# Altium footprint library XTAL.PcbLib: 16 footprints
Each footprint in its own frame and in the unit in brackets; x right, y up, seen from the top. Pads: shape width x height; smd on the part's side, far side on the other; paste and mask are expansions set on the pad; w line width, h text height; cw(c..) or ccw(c..) is an arc to the next point about the centre after c.
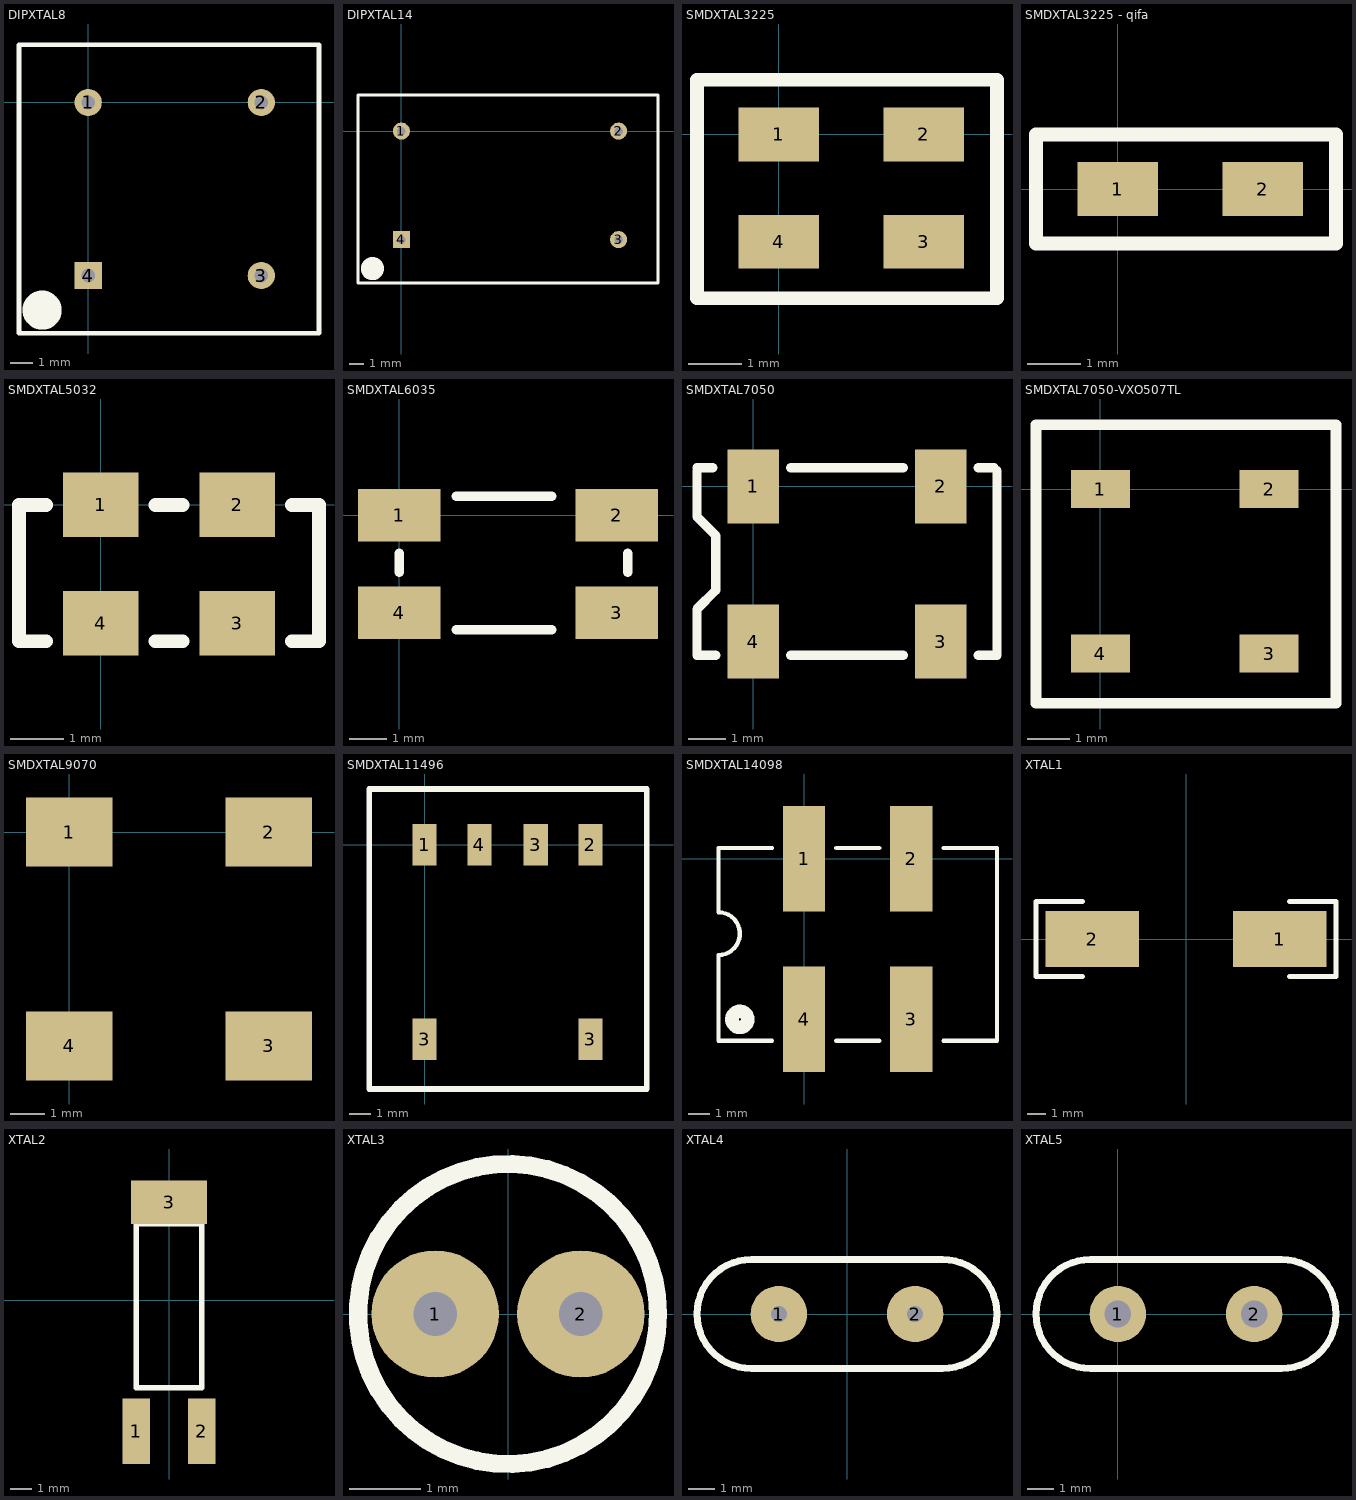
[diagram p0: the footprints below, top view; thin cyan lines are the x and y axes]

## DIPXTAL8 [mm]
pads (4):
  round 1.2 hole 0.6: 1(0,0) 2(7.62,0) 3(7.62,-7.62)
  rect 1.2x1.2 hole 0.6: 4(0,-7.62)
Top Overlay:
  circle w1.5: c-2.032,-9.144 r0.108
  lines w0.2: -3.048,-10.16 -3.048,2.54 10.16,2.54 10.16,-10.16 -3.048,-10.16

## DIPXTAL14 [mm]
pads (4):
  round 1.2 hole 0.6: 1(0,0) 2(15.25,0) 3(15.25,-7.62)
  rect 1.2x1.2 hole 0.6: 4(0,-7.62)
Top Overlay:
  circle w1.016: c-2.032,-9.652 r0.3
  lines w0.2: -3.048,-10.668 -3.048,2.54 18.016,2.54 18.016,-10.668 -3.048,-10.668

## SMDXTAL3225 [mm]
pads (4):
  rect 1.5x1 smd: 1(0,0) 2(2.7,0) 3(2.7,-2) 4(0,-2)
Top Overlay:
  lines w0.254: -1.524,-3.048 4.064,-3.048 4.064,1.016 -1.524,1.016 -1.524,-3.048

## SMDXTAL3225 - qifa [mm]
pads (2):
  rect 1.5x1 smd: 1(0,0) 2(2.7,0)
Top Overlay:
  lines w0.254: -1.524,-1.016 -1.524,1.016 4.064,1.016 4.064,-1.016 -1.524,-1.016

## SMDXTAL5032 [mm]
pads (4):
  rect 1.4x1.2 smd: 1(0,0) 2(2.54,0) 3(2.54,-2.2) 4(0,-2.2)
Top Overlay:
  lines w0.254: -1.016,-2.54 -1.524,-2.54 -1.524,0 -1.016,0 ; 1.016,-2.54 1.524,-2.54 ; 1.016,0 1.524,0 ; 3.556,-2.54 4.064,-2.54 4.064,0 3.556,0

## SMDXTAL6035 [mm]
pads (4):
  rect 2.2x1.4 smd: 1(0,0) 2(5.8,0) 3(5.8,-2.6) 4(0,-2.6)
Top Overlay:
  lines w0.254: 0,-1.524 0,-1.016 ; 1.524,-3.048 4.064,-3.048 ; 1.524,0.508 4.064,0.508 ; 6.096,-1.524 6.096,-1.016

## SMDXTAL7050 [mm]
pads (4):
  rect 1.4x2 smd: 1(0,0) 2(5.08,0) 3(5.08,-4.2) 4(0,-4.2)
Top Overlay:
  lines w0.254: -1.524,0.428 -1.524,-0.822 -1.016,-1.33 -1.016,-2.814 -1.524,-3.322 -1.524,-4.572 -1.016,-4.572 ; -1.524,0.508 -1.096,0.508 ; 1.016,-4.572 4.064,-4.572 ; 1.016,0.508 4.064,0.508 ; 6.096,-4.572 6.604,-4.572 6.604,0.428 ; 6.096,0.508 6.524,0.508

## SMDXTAL7050-VXO507TL [mm]
pads (4):
  rect 1.4x0.9 smd: 1(0,0) 2(4,0) 3(4,-3.9) 4(0,-3.9)
Top Overlay:
  lines w0.254: -1.524,-5.08 -1.524,1.524 5.588,1.524 5.588,-5.08 -1.524,-5.08

## SMDXTAL9070 [mm]
pads (4):
  rect 2.5x2 smd: 1(0,0) 2(5.78,0) 3(5.78,-6.2) 4(0,-6.2)

## SMDXTAL11496 [mm]
pads (6):
  rect 1.1x1.9 smd: 1(0,0) 2(7.58,0) 3(0,-8.9) 3(5.08,0) 3(7.58,-8.9) 4(2.5,0)
Top Overlay:
  lines w0.254: -2.54,-11.176 -2.54,2.54 10.16,2.54 10.16,-11.176 -2.54,-11.176

## SMDXTAL14098 [mm]
pads (4):
  rect 2x5 smd: 1(0,0) 2(5.08,0) 3(5.08,-7.62) 4(0,-7.62)
Top Overlay:
  circle w0.64: c-3.048,-7.62 r0.38
  lines w0.2: -1.524,-8.636 -4.064,-8.636 -4.064,-4.572 ccw(c-4.064,-3.556) -4.064,-2.54 -4.064,0.508 -1.524,0.508 ; 1.524,-8.636 3.556,-8.636 ; 1.524,0.508 3.556,0.508 ; 6.604,-8.636 9.144,-8.636 9.144,-6.35 9.144,-1.778 9.144,0.508 6.604,0.508

## XTAL1 [mil]
pads (2):
  rect 200x120 smd: 1(200,0) 2(-200,0)
Top Overlay:
  lines w10: -220,-80 -320,-80 -320,80 -220,80 ; 220,-80 320,-80 320,80 220,80

## XTAL2 [mil]
pads (3):
  rect 50x120 smd: 1(-60,-240) 2(60,-240)
  rect 140x80 smd: 3(0,180)
Top Overlay:
  lines w10: -60,-160 60,-160 60,140 -60,140 -60,-160

## XTAL3 [mil]
pads (2):
  round 70 on Top hole 24: 1(-40,0) 2(40,0)
Top Overlay:
  circle w10: c0,0 r82.46

## XTAL4 [mm]
pads (2):
  round 2.1 hole 0.6: 1(-2.54,0) 2(2.54,0)
Top Overlay:
  lines w0.254: -3.556,-2.032 cw(c-3.556,0) -3.556,2.032 ; -3.556,-2.025 3.556,-2.025 ; -3.556,2.03 3.556,2.03 ; 3.556,-2.032 ccw(c3.556,0) 3.556,2.032

## XTAL5 [mm]
pads (2):
  round 2.1 hole 1: 1(0,0) 2(5.08,0)
Top Overlay:
  lines w0.254: -1.016,-2.032 cw(c-1.016,0) -1.016,2.032 ; -1.016,-2.025 6.096,-2.025 ; -1.016,2.03 6.096,2.03 ; 6.096,-2.032 ccw(c6.096,0) 6.096,2.032